# Altium schematic symbol library 50ZLH100MEFC8X11.5.SchLib: 1 symbol
Pins are listed as number, name and electrical type; pins without a type are passive.

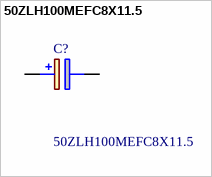
[diagram p0: symbol 50ZLH100MEFC8X11.5]

## 50ZLH100MEFC8X11.5
designator C?
Rubycon 100uF 50 V dc Aluminium Electrolytic Capacitor, ZLH Series 8000h 8 Dia. x 11.5mm; Geometry.Height: 13.5mm; Manufacturer_Name: Rubycon; Manufacturer_Part_Number: 50ZLH100MEFC8X11.5; Mouser Part Number: 232-50ZLH100MEFC8X15; Mouser Price/Stock: https://www.mouser.co.uk/ProductDetail/Rubycon/50ZLH100MEFC8X11.5?qs=T3oQrply3y9LrKRTnEwlpw%3D%3D; Arrow Part Number: 50ZLH100MEFC8X11.5; Arrow Price/Stock: https://www.arrow.com/en/products/50zlh100mefc8x11.5/rubycon; Datasheet Link: https://componentsearchengine.com/Datasheets/2/50ZLH100MEFC8X11.5.pdf
footprint CAPPRD350W60D825H1350
pins: 1 +, 2 -